# EAGLE library part MAX4999 (library keves)
USB 2.0 Hi-Speed Differential 8:1 Multiplexer
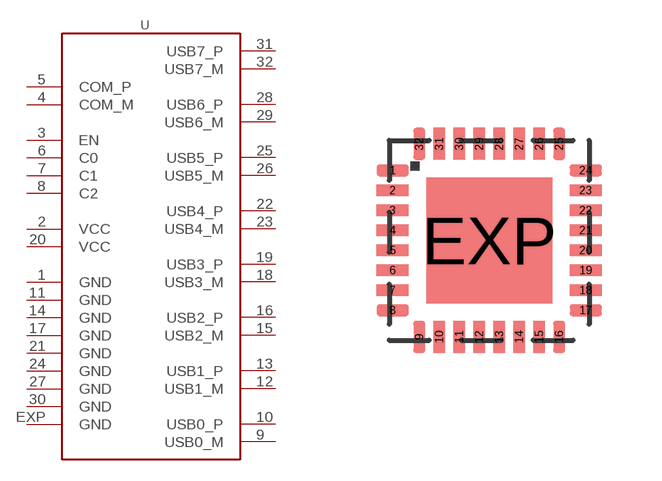
[diagram p22: symbol with the pads of MAXIM-TQFN-32; footprint MAXIM-TQFN-32]

Designator prefix -

## MAX4999  [MAXIM-TQFN-32]
1  GND
2  VCC
3  EN
4  COM_M
5  COM_P
6  C0
7  C1
8  C2
9  USB0_M
10  USB0_P
11  GND
12  USB1_M
13  USB1_P
14  GND
15  USB2_M
16  USB2_P
17  GND
18  USB3_M
19  USB3_P
20  VCC
21  GND
22  USB4_P
23  USB4_M
24  GND
25  USB5_P
26  USB5_M
27  GND
28  USB6_P
29  USB6_M
30  GND
31  USB7_P
32  USB7_M
EXP  GND

## Footprint MAXIM-TQFN-32 (pad centres in mm)
http://pdfserv.maxim-ic.com/land_patterns/90-0012.PDF
smd 0.8 x 0.29: 1 -2.415,1.75; 2 -2.415,1.25; 3 -2.415,0.75; 4 -2.415,0.25; 5 -2.415,-0.25; 6 -2.415,-0.75; 7 -2.415,-1.25; 8 -2.415,-1.75; 17 2.415,-1.75; 18 2.415,-1.25; 19 2.415,-0.75; 20 2.415,-0.25; 21 2.415,0.25; 22 2.415,0.75; 23 2.415,1.25; 24 2.415,1.75
smd 0.29 x 0.8: 9 -1.75,-2.415; 10 -1.25,-2.415; 11 -0.75,-2.415; 12 -0.25,-2.415; 13 0.25,-2.415; 14 0.75,-2.415; 15 1.25,-2.415; 16 1.75,-2.415; 25 1.75,2.415; 26 1.25,2.415; 27 0.75,2.415; 28 0.25,2.415; 29 -0.25,2.415; 30 -0.75,2.415; 31 -1.25,2.415; 32 -1.75,2.415
smd 3.15 x 3.15: EXP 0,0